# Altium footprint library IXBOD108.PcbLib: 1 footprints
Each footprint in its own frame and in the unit in brackets; x right, y up, seen from the top. Pads: shape width x height; smd on the part's side, far side on the other; paste and mask are expansions set on the pad; w line width, h text height; cw(c..) or ccw(c..) is an arc to the next point about the centre after c.
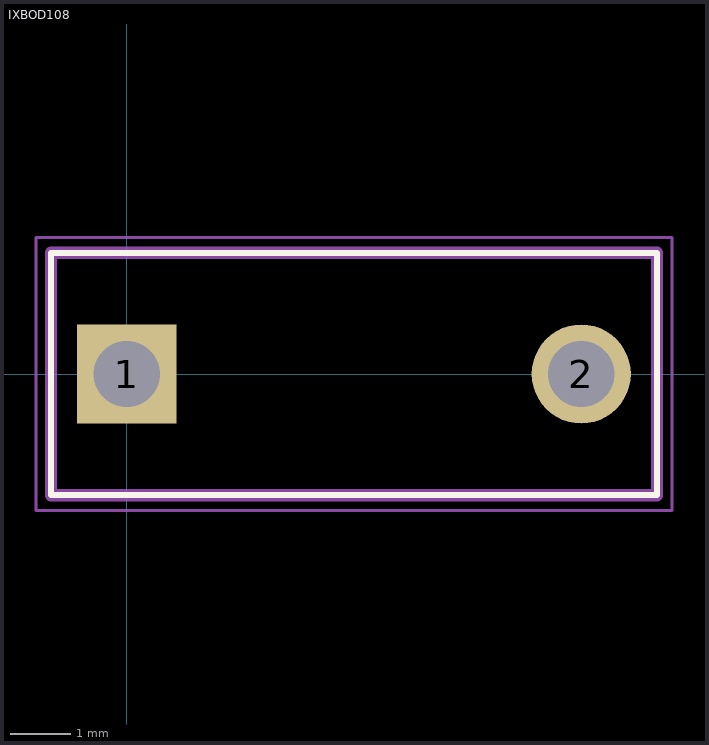
[diagram p0: the footprint, top view; thin cyan lines are the x and y axes]

## IXBOD108 [mm]
pads (2):
  rect 1.635x1.635 hole 1.09: 1(0,0)
  round 1.635 hole 1.09: 2(7.5,0)
Top Overlay:
  lines w0.1: -1.25,-2 8.75,-2 8.75,2 -1.25,2 -1.25,-2
Mechanical 15:
  lines w0.2: -1.25,-2 8.75,-2 8.75,2 -1.25,2 -1.25,-2
Mechanical 20:
  lines w0.05: -1.5,-2.25 9,-2.25 9,2.25 -1.5,2.25 -1.5,-2.25